# Altium footprint library C0402 - MURATA.PcbLib: 1 footprints
Each footprint in its own frame and in the unit in brackets; x right, y up, seen from the top. Pads: shape width x height; smd on the part's side, far side on the other; paste and mask are expansions set on the pad; w line width, h text height; cw(c..) or ccw(c..) is an arc to the next point about the centre after c.
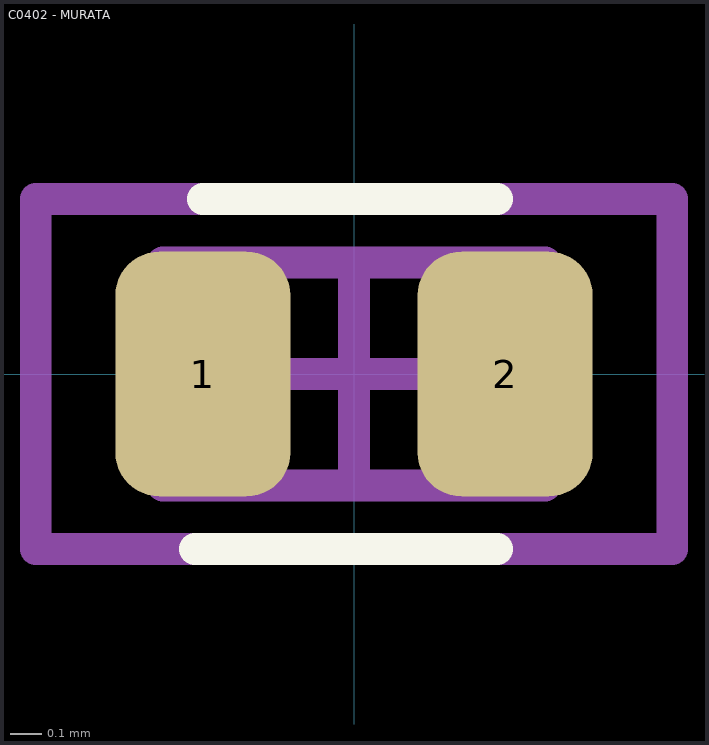
[diagram p0: the footprint, top view; thin cyan lines are the x and y axes]

## C0402 - MURATA [mm] "Chip Capacitor, 2-Leads, Body 1,00x0,50mm, IPC Medium Density"
height 0.7
pads (2):
  rrect50% 0.55x0.77 smd: 1(-0.475,0) 2(0.475,0)
Top Overlay:
  lines w0.1: -0.5,-0.55 0.45,-0.55 ; -0.475,0.55 0.45,0.55
Mechanical 13:
  lines w0.1: -0.6,-0.35 0.6,-0.35 0.6,0.35 -0.6,0.35 -0.6,-0.35
Mechanical 15:
  lines w0.1: -0.35,0 0.35,0 ; 0,-0.35 0,0.35 ; -1,-0.55 1,-0.55 1,0.55 -1,0.55 -1,-0.55
Top Designator:
  text ".Designator" at -1.3,-0.058 h0.25
3D body "CAPC1005X07N.step": height 0.7, standoff 0, extent -0.6,-0.35 0.6,0.35